# Altium footprint library nixie-tube.PcbLib: 3 footprints
Each footprint in its own frame and in the unit in brackets; x right, y up, seen from the top. Pads: shape width x height; smd on the part's side, far side on the other; paste and mask are expansions set on the pad; w line width, h text height; cw(c..) or ccw(c..) is an arc to the next point about the centre after c.
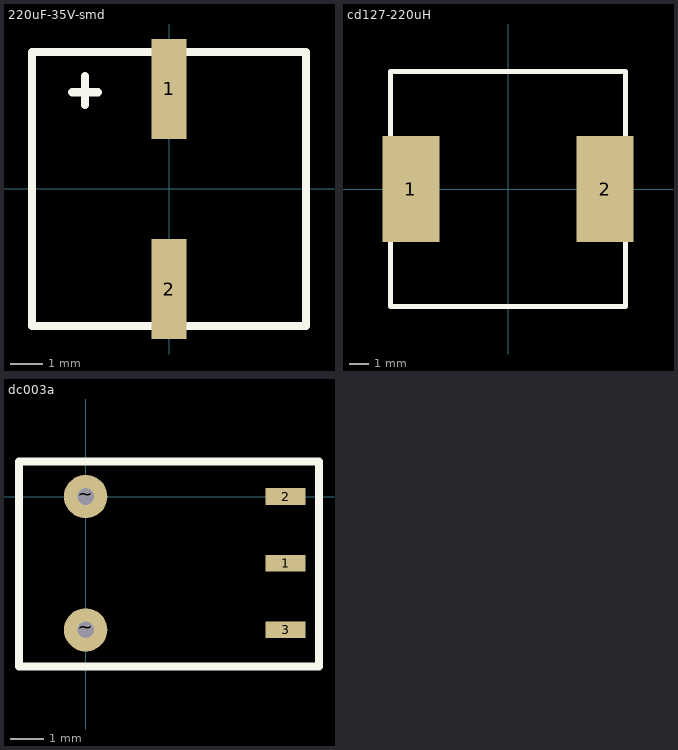
[diagram p0: the footprints below, top view; thin cyan lines are the x and y axes]

## 220uF-35V-smd [mm] "smd capacitance"
pads (2):
  rect 1.1x3.1 smd: 1(0,3.1) 2(0,-3.1)
Top Overlay:
  lines w0.254: -3,3 -2.2,3 ; -2.6,2.6 -2.6,3.5 ; -4.25,-4.25 4.25,-4.25 4.25,4.25 -4.25,4.25 -4.25,-4.25

## cd127-220uH [mm] "smd inductor 220uH"
pads (2):
  rect 2.9x5.4 smd: 1(-4.95,0) 2(4.95,0)
Top Overlay:
  lines w0.254: -6,-6 6,-6 6,6 -6,6 -6,-6

## dc003a [mm] "Dc jack 003A"
pads (5):
  rect 1.2x0.5 smd: 1(6,-2) 2(6,0) 3(6,-4)
  round 1.3 hole 0.5 unplated: ~(0,-4) ~(0,0)
Top Overlay:
  lines w0.254: -2,-5.1 -2,1.05 7,1.05 7,-5.1 -2,-5.1